# Altium schematic symbol library WA-SMSA.SchLib: 58 symbols
Pins are listed as number, name and electrical type; pins without a type are passive.

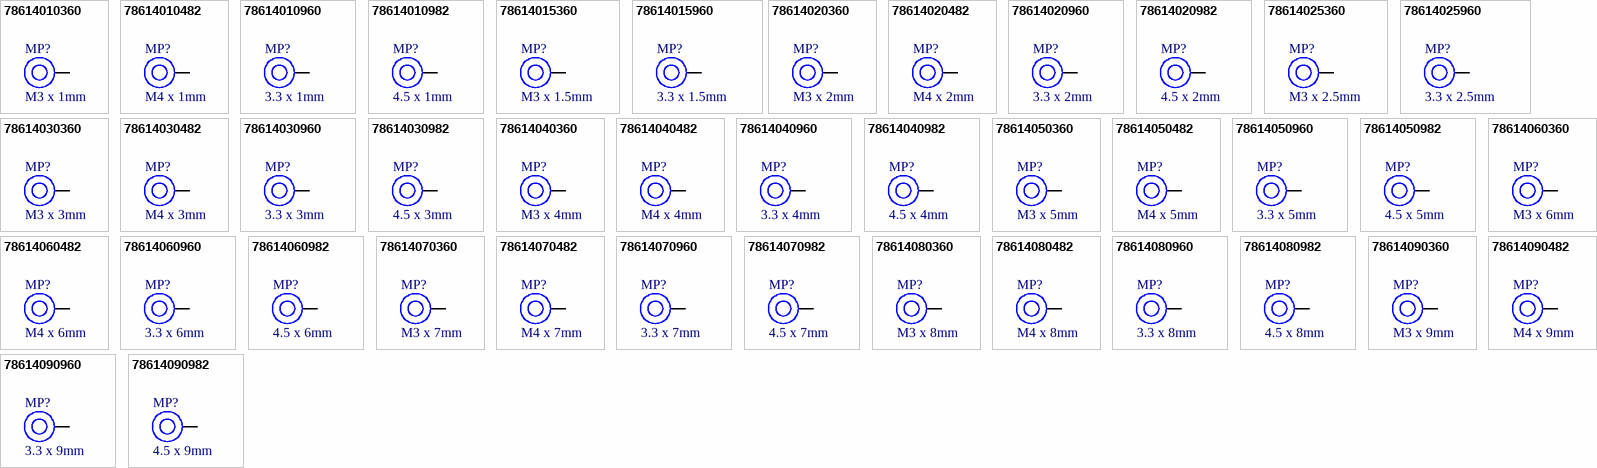
[diagram p0: symbols 78614010360 to 78614090982]

## 78614010360
designator MP?, comment M3 x 1mm
WA-SMSA SMT Spacer Studs Automotive, OD 6mm, ID 4.2mm, M3 x 1mm; Manufacturer Part Number: 78614010360; Manufacturer: Wurth Elektronik; Category: SMT Spacers; Match Code: WA-SMSA; ComponentLink1Description: Website Link; ComponentLink1URL: https://www.we-online.com/redexpert/article/78614010360?ad; ComponentLink2Description: Datasheet Link; ComponentLink2URL: https://www.we-online.com/redexpert/spec/78614010360?ad; Mount: Surface Mount; Operating Temperature Min: -55°C; Operating Temperature Max: 150°C; Packaging: Tape and Reel; Height: 1mm; Automotive: Yes; Inner Diameter: 4.2mm; Outer Diameter: 6mm; Thread Size: M3
footprint 78614010360
pins: 1

## 78614010482
designator MP?, comment M4 x 1mm
WA-SMSA SMT Spacer Studs Automotive, OD 8.2mm, ID 5.2mm, M4 x 1mm; Manufacturer Part Number: 78614010482; Manufacturer: Wurth Elektronik; Category: SMT Spacers; Match Code: WA-SMSA; ComponentLink1Description: Website Link; ComponentLink1URL: https://www.we-online.com/redexpert/article/78614010482?ad; ComponentLink2Description: Datasheet Link; ComponentLink2URL: https://www.we-online.com/redexpert/spec/78614010482?ad; Mount: Surface Mount; Operating Temperature Min: -55°C; Operating Temperature Max: 150°C; Packaging: Tape and Reel; Height: 1mm; Automotive: Yes; Inner Diameter: 5.2mm; Outer Diameter: 8.2mm; Thread Size: M4
footprint 78614010482
pins: 1

## 78614010960
designator MP?, comment 3.3 x 1mm
WA-SMSA SMT Spacer Studs Automotive, OD 6mm, ID 4.2mm, 3.3 x 1mm; Manufacturer Part Number: 78614010960; Manufacturer: Wurth Elektronik; Hole Diameter: 3.3mm; Category: SMT Spacers; Match Code: WA-SMSA; ComponentLink1Description: Website Link; ComponentLink1URL: https://www.we-online.com/redexpert/article/78614010960?ad; ComponentLink2Description: Datasheet Link; ComponentLink2URL: https://www.we-online.com/redexpert/spec/78614010960?ad; Mount: Surface Mount; Operating Temperature Min: -55°C; Operating Temperature Max: 150°C; Packaging: Tape and Reel; Height: 1mm; Automotive: Yes; Inner Diameter: 4.2mm; Outer Diameter: 6mm
footprint 78614010960
pins: 1

## 78614010982
designator MP?, comment 4.5 x 1mm
WA-SMSA SMT Spacer Studs Automotive, OD 8.2mm, ID 5.2mm, 4.5 x 1mm; Manufacturer Part Number: 78614010982; Manufacturer: Wurth Elektronik; Hole Diameter: 4.5mm; Category: SMT Spacers; Match Code: WA-SMSA; ComponentLink1Description: Website Link; ComponentLink1URL: https://www.we-online.com/redexpert/article/78614010982?ad; ComponentLink2Description: Datasheet Link; ComponentLink2URL: https://www.we-online.com/redexpert/spec/78614010982?ad; Mount: Surface Mount; Operating Temperature Min: -55°C; Operating Temperature Max: 150°C; Packaging: Tape and Reel; Height: 1mm; Automotive: Yes; Inner Diameter: 5.2mm; Outer Diameter: 8.2mm
footprint 78614010982
pins: 1

## 78614015360
designator MP?, comment M3 x 1.5mm
WA-SMSA SMT Spacer Studs Automotive, OD 6mm, ID 4.2mm, M3 x 1.5mm; Manufacturer Part Number: 78614015360; Manufacturer: Wurth Elektronik; Category: SMT Spacers; Match Code: WA-SMSA; ComponentLink1Description: Website Link; ComponentLink1URL: https://www.we-online.com/redexpert/article/78614015360?ad; ComponentLink2Description: Datasheet Link; ComponentLink2URL: https://www.we-online.com/redexpert/spec/78614015360?ad; Mount: Surface Mount; Operating Temperature Min: -55°C; Operating Temperature Max: 150°C; Packaging: Tape and Reel; Height: 1.5mm; Automotive: Yes; Inner Diameter: 4.2mm; Outer Diameter: 6mm; Thread Size: M3
footprint 78614015360
pins: 1

## 78614015960
designator MP?, comment 3.3 x 1.5mm
WA-SMSA SMT Spacer Studs Automotive, OD 6mm, ID 4.2mm, 3.3 x 1.5mm; Manufacturer Part Number: 78614015960; Manufacturer: Wurth Elektronik; Hole Diameter: 3.3mm; Category: SMT Spacers; Match Code: WA-SMSA; ComponentLink1Description: Website Link; ComponentLink1URL: https://www.we-online.com/redexpert/article/78614015960?ad; ComponentLink2Description: Datasheet Link; ComponentLink2URL: https://www.we-online.com/redexpert/spec/78614015960?ad; Mount: Surface Mount; Operating Temperature Min: -55°C; Operating Temperature Max: 150°C; Packaging: Tape and Reel; Height: 1.5mm; Automotive: Yes; Inner Diameter: 4.2mm; Outer Diameter: 6mm
footprint 78614015960
pins: 1

## 78614020360
designator MP?, comment M3 x 2mm
WA-SMSA SMT Spacer Studs Automotive, OD 6mm, ID 4.2mm, M3 x 2mm; Manufacturer Part Number: 78614020360; Manufacturer: Wurth Elektronik; Category: SMT Spacers; Match Code: WA-SMSA; ComponentLink1Description: Website Link; ComponentLink1URL: https://www.we-online.com/redexpert/article/78614020360?ad; ComponentLink2Description: Datasheet Link; ComponentLink2URL: https://www.we-online.com/redexpert/spec/78614020360?ad; Mount: Surface Mount; Operating Temperature Min: -55°C; Operating Temperature Max: 150°C; Packaging: Tape and Reel; Height: 2mm; Automotive: Yes; Inner Diameter: 4.2mm; Outer Diameter: 6mm; Thread Size: M3
footprint 78614020360
pins: 1

## 78614020482
designator MP?, comment M4 x 2mm
WA-SMSA SMT Spacer Studs Automotive, OD 8.2mm, ID 5.2mm, M4 x 2mm; Manufacturer Part Number: 78614020482; Manufacturer: Wurth Elektronik; Category: SMT Spacers; Match Code: WA-SMSA; ComponentLink1Description: Website Link; ComponentLink1URL: https://www.we-online.com/redexpert/article/78614020482?ad; ComponentLink2Description: Datasheet Link; ComponentLink2URL: https://www.we-online.com/redexpert/spec/78614020482?ad; Mount: Surface Mount; Operating Temperature Min: -55°C; Operating Temperature Max: 150°C; Packaging: Tape and Reel; Height: 2mm; Automotive: Yes; Inner Diameter: 5.2mm; Outer Diameter: 8.2mm; Thread Size: M4
footprint 78614020482
pins: 1

## 78614020960
designator MP?, comment 3.3 x 2mm
WA-SMSA SMT Spacer Studs Automotive, OD 6mm, ID 4.2mm, 3.3 x 2mm; Manufacturer Part Number: 78614020960; Manufacturer: Wurth Elektronik; Hole Diameter: 3.3mm; Category: SMT Spacers; Match Code: WA-SMSA; ComponentLink1Description: Website Link; ComponentLink1URL: https://www.we-online.com/redexpert/article/78614020960?ad; ComponentLink2Description: Datasheet Link; ComponentLink2URL: https://www.we-online.com/redexpert/spec/78614020960?ad; Mount: Surface Mount; Operating Temperature Min: -55°C; Operating Temperature Max: 150°C; Packaging: Tape and Reel; Height: 2mm; Automotive: Yes; Inner Diameter: 4.2mm; Outer Diameter: 6mm
footprint 78614020960
pins: 1

## 78614020982
designator MP?, comment 4.5 x 2mm
WA-SMSA SMT Spacer Studs Automotive, OD 8.2mm, ID 5.2mm, 4.5 x 2mm; Manufacturer Part Number: 78614020982; Manufacturer: Wurth Elektronik; Hole Diameter: 4.5mm; Category: SMT Spacers; Match Code: WA-SMSA; ComponentLink1Description: Website Link; ComponentLink1URL: https://www.we-online.com/redexpert/article/78614020982?ad; ComponentLink2Description: Datasheet Link; ComponentLink2URL: https://www.we-online.com/redexpert/spec/78614020982?ad; Mount: Surface Mount; Operating Temperature Min: -55°C; Operating Temperature Max: 150°C; Packaging: Tape and Reel; Height: 2mm; Automotive: Yes; Inner Diameter: 5.2mm; Outer Diameter: 8.2mm
footprint 78614020982
pins: 1

## 78614025360
designator MP?, comment M3 x 2.5mm
WA-SMSA SMT Spacer Studs Automotive, OD 6mm, ID 4.2mm, M3 x 2.5mm; Manufacturer Part Number: 78614025360; Manufacturer: Wurth Elektronik; Category: SMT Spacers; Match Code: WA-SMSA; ComponentLink1Description: Website Link; ComponentLink1URL: https://www.we-online.com/redexpert/article/78614025360?ad; ComponentLink2Description: Datasheet Link; ComponentLink2URL: https://www.we-online.com/redexpert/spec/78614025360?ad; Mount: Surface Mount; Operating Temperature Min: -55°C; Operating Temperature Max: 150°C; Packaging: Tape and Reel; Height: 2.5mm; Automotive: Yes; Inner Diameter: 4.2mm; Outer Diameter: 6mm; Thread Size: M3
footprint 78614025360
pins: 1

## 78614025960
designator MP?, comment 3.3 x 2.5mm
WA-SMSA SMT Spacer Studs Automotive, OD 6mm, ID 4.2mm, 3.3 x 2.5mm; Manufacturer Part Number: 78614025960; Manufacturer: Wurth Elektronik; Hole Diameter: 3.3mm; Category: SMT Spacers; Match Code: WA-SMSA; ComponentLink1Description: Website Link; ComponentLink1URL: https://www.we-online.com/redexpert/article/78614025960?ad; ComponentLink2Description: Datasheet Link; ComponentLink2URL: https://www.we-online.com/redexpert/spec/78614025960?ad; Mount: Surface Mount; Operating Temperature Min: -55°C; Operating Temperature Max: 150°C; Packaging: Tape and Reel; Height: 2.5mm; Automotive: Yes; Inner Diameter: 4.2mm; Outer Diameter: 6mm
footprint 78614025960
pins: 1

## 78614030360
designator MP?, comment M3 x 3mm
WA-SMSA SMT Spacer Studs Automotive, OD 6mm, ID 4.2mm, M3 x 3mm; Manufacturer Part Number: 78614030360; Manufacturer: Wurth Elektronik; Category: SMT Spacers; Match Code: WA-SMSA; ComponentLink1Description: Website Link; ComponentLink1URL: https://www.we-online.com/redexpert/article/78614030360?ad; ComponentLink2Description: Datasheet Link; ComponentLink2URL: https://www.we-online.com/redexpert/spec/78614030360?ad; Mount: Surface Mount; Operating Temperature Min: -55°C; Operating Temperature Max: 150°C; Packaging: Tape and Reel; Height: 3mm; Automotive: Yes; Inner Diameter: 4.2mm; Outer Diameter: 6mm; Thread Size: M3
footprint 78614030360
pins: 1

## 78614030482
designator MP?, comment M4 x 3mm
WA-SMSA SMT Spacer Studs Automotive, OD 8.2mm, ID 5.2mm, M4 x 3mm; Manufacturer Part Number: 78614030482; Manufacturer: Wurth Elektronik; Category: SMT Spacers; Match Code: WA-SMSA; ComponentLink1Description: Website Link; ComponentLink1URL: https://www.we-online.com/redexpert/article/78614030482?ad; ComponentLink2Description: Datasheet Link; ComponentLink2URL: https://www.we-online.com/redexpert/spec/78614030482?ad; Mount: Surface Mount; Operating Temperature Min: -55°C; Operating Temperature Max: 150°C; Packaging: Tape and Reel; Height: 3mm; Automotive: Yes; Inner Diameter: 5.2mm; Outer Diameter: 8.2mm; Thread Size: M4
footprint 78614030482
pins: 1

## 78614030960
designator MP?, comment 3.3 x 3mm
WA-SMSA SMT Spacer Studs Automotive, OD 6mm, ID 4.2mm, 3.3 x 3mm; Manufacturer Part Number: 78614030960; Manufacturer: Wurth Elektronik; Hole Diameter: 3.3mm; Category: SMT Spacers; Match Code: WA-SMSA; ComponentLink1Description: Website Link; ComponentLink1URL: https://www.we-online.com/redexpert/article/78614030960?ad; ComponentLink2Description: Datasheet Link; ComponentLink2URL: https://www.we-online.com/redexpert/spec/78614030960?ad; Mount: Surface Mount; Operating Temperature Min: -55°C; Operating Temperature Max: 150°C; Packaging: Tape and Reel; Height: 3mm; Automotive: Yes; Inner Diameter: 4.2mm; Outer Diameter: 6mm
footprint 78614030960
pins: 1

## 78614030982
designator MP?, comment 4.5 x 3mm
WA-SMSA SMT Spacer Studs Automotive, OD 8.2mm, ID 5.2mm, 4.5 x 3mm; Manufacturer Part Number: 78614030982; Manufacturer: Wurth Elektronik; Hole Diameter: 4.5mm; Category: SMT Spacers; Match Code: WA-SMSA; ComponentLink1Description: Website Link; ComponentLink1URL: https://www.we-online.com/redexpert/article/78614030982?ad; ComponentLink2Description: Datasheet Link; ComponentLink2URL: https://www.we-online.com/redexpert/spec/78614030982?ad; Mount: Surface Mount; Operating Temperature Min: -55°C; Operating Temperature Max: 150°C; Packaging: Tape and Reel; Height: 3mm; Automotive: Yes; Inner Diameter: 5.2mm; Outer Diameter: 8.2mm
footprint 78614030982
pins: 1

## 78614040360
designator MP?, comment M3 x 4mm
WA-SMSA SMT Spacer Studs Automotive, OD 6mm, ID 4.2mm, M3 x 4mm; Manufacturer Part Number: 78614040360; Manufacturer: Wurth Elektronik; Category: SMT Spacers; Match Code: WA-SMSA; ComponentLink1Description: Website Link; ComponentLink1URL: https://www.we-online.com/redexpert/article/78614040360?ad; ComponentLink2Description: Datasheet Link; ComponentLink2URL: https://www.we-online.com/redexpert/spec/78614040360?ad; Mount: Surface Mount; Operating Temperature Min: -55°C; Operating Temperature Max: 150°C; Packaging: Tape and Reel; Height: 4mm; Automotive: Yes; Inner Diameter: 4.2mm; Outer Diameter: 6mm; Thread Size: M3
footprint 78614040360
pins: 1

## 78614040482
designator MP?, comment M4 x 4mm
WA-SMSA SMT Spacer Studs Automotive, OD 8.2mm, ID 5.2mm, M4 x 4mm; Manufacturer Part Number: 78614040482; Manufacturer: Wurth Elektronik; Category: SMT Spacers; Match Code: WA-SMSA; ComponentLink1Description: Website Link; ComponentLink1URL: https://www.we-online.com/redexpert/article/78614040482?ad; ComponentLink2Description: Datasheet Link; ComponentLink2URL: https://www.we-online.com/redexpert/spec/78614040482?ad; Mount: Surface Mount; Operating Temperature Min: -55°C; Operating Temperature Max: 150°C; Packaging: Tape and Reel; Height: 4mm; Automotive: Yes; Inner Diameter: 5.2mm; Outer Diameter: 8.2mm; Thread Size: M4
footprint 78614040482
pins: 1

## 78614040960
designator MP?, comment 3.3 x 4mm
WA-SMSA SMT Spacer Studs Automotive, OD 6mm, ID 4.2mm, 3.3 x 4mm; Manufacturer Part Number: 78614040960; Manufacturer: Wurth Elektronik; Hole Diameter: 3.3mm; Category: SMT Spacers; Match Code: WA-SMSA; ComponentLink1Description: Website Link; ComponentLink1URL: https://www.we-online.com/redexpert/article/78614040960?ad; ComponentLink2Description: Datasheet Link; ComponentLink2URL: https://www.we-online.com/redexpert/spec/78614040960?ad; Mount: Surface Mount; Operating Temperature Min: -55°C; Operating Temperature Max: 150°C; Packaging: Tape and Reel; Height: 4mm; Automotive: Yes; Inner Diameter: 4.2mm; Outer Diameter: 6mm
footprint 78614040960
pins: 1

## 78614040982
designator MP?, comment 4.5 x 4mm
WA-SMSA SMT Spacer Studs Automotive, OD 8.2mm, ID 5.2mm, 4.5 x 4mm; Manufacturer Part Number: 78614040982; Manufacturer: Wurth Elektronik; Hole Diameter: 4.5mm; Category: SMT Spacers; Match Code: WA-SMSA; ComponentLink1Description: Website Link; ComponentLink1URL: https://www.we-online.com/redexpert/article/78614040982?ad; ComponentLink2Description: Datasheet Link; ComponentLink2URL: https://www.we-online.com/redexpert/spec/78614040982?ad; Mount: Surface Mount; Operating Temperature Min: -55°C; Operating Temperature Max: 150°C; Packaging: Tape and Reel; Height: 4mm; Automotive: Yes; Inner Diameter: 5.2mm; Outer Diameter: 8.2mm
footprint 78614040982
pins: 1

## 78614050360
designator MP?, comment M3 x 5mm
WA-SMSA SMT Spacer Studs Automotive, OD 6mm, ID 4.2mm, M3 x 5mm; Manufacturer Part Number: 78614050360; Manufacturer: Wurth Elektronik; Category: SMT Spacers; Match Code: WA-SMSA; ComponentLink1Description: Website Link; ComponentLink1URL: https://www.we-online.com/redexpert/article/78614050360?ad; ComponentLink2Description: Datasheet Link; ComponentLink2URL: https://www.we-online.com/redexpert/spec/78614050360?ad; Mount: Surface Mount; Operating Temperature Min: -55°C; Operating Temperature Max: 150°C; Packaging: Tape and Reel; Height: 5mm; Automotive: Yes; Inner Diameter: 4.2mm; Outer Diameter: 6mm; Thread Size: M3
footprint 78614050360
pins: 1

## 78614050482
designator MP?, comment M4 x 5mm
WA-SMSA SMT Spacer Studs Automotive, OD 8.2mm, ID 5.2mm, M4 x 5mm; Manufacturer Part Number: 78614050482; Manufacturer: Wurth Elektronik; Category: SMT Spacers; Match Code: WA-SMSA; ComponentLink1Description: Website Link; ComponentLink1URL: https://www.we-online.com/redexpert/article/78614050482?ad; ComponentLink2Description: Datasheet Link; ComponentLink2URL: https://www.we-online.com/redexpert/spec/78614050482?ad; Mount: Surface Mount; Operating Temperature Min: -55°C; Operating Temperature Max: 150°C; Packaging: Tape and Reel; Height: 5mm; Automotive: Yes; Inner Diameter: 5.2mm; Outer Diameter: 8.2mm; Thread Size: M4
footprint 78614050482
pins: 1

## 78614050960
designator MP?, comment 3.3 x 5mm
WA-SMSA SMT Spacer Studs Automotive, OD 6mm, ID 4.2mm, 3.3 x 5mm; Manufacturer Part Number: 78614050960; Manufacturer: Wurth Elektronik; Hole Diameter: 3.3mm; Category: SMT Spacers; Match Code: WA-SMSA; ComponentLink1Description: Website Link; ComponentLink1URL: https://www.we-online.com/redexpert/article/78614050960?ad; ComponentLink2Description: Datasheet Link; ComponentLink2URL: https://www.we-online.com/redexpert/spec/78614050960?ad; Mount: Surface Mount; Operating Temperature Min: -55°C; Operating Temperature Max: 150°C; Packaging: Tape and Reel; Height: 5mm; Automotive: Yes; Inner Diameter: 4.2mm; Outer Diameter: 6mm
footprint 78614050960
pins: 1

## 78614050982
designator MP?, comment 4.5 x 5mm
WA-SMSA SMT Spacer Studs Automotive, OD 8.2mm, ID 5.2mm, 4.5 x 5mm; Manufacturer Part Number: 78614050982; Manufacturer: Wurth Elektronik; Hole Diameter: 4.5mm; Category: SMT Spacers; Match Code: WA-SMSA; ComponentLink1Description: Website Link; ComponentLink1URL: https://www.we-online.com/redexpert/article/78614050982?ad; ComponentLink2Description: Datasheet Link; ComponentLink2URL: https://www.we-online.com/redexpert/spec/78614050982?ad; Mount: Surface Mount; Operating Temperature Min: -55°C; Operating Temperature Max: 150°C; Packaging: Tape and Reel; Height: 5mm; Automotive: Yes; Inner Diameter: 5.2mm; Outer Diameter: 8.2mm
footprint 78614050982
pins: 1

## 78614060360
designator MP?, comment M3 x 6mm
WA-SMSA SMT Spacer Studs Automotive, OD 6mm, ID 4.2mm, M3 x 6mm; Manufacturer Part Number: 78614060360; Manufacturer: Wurth Elektronik; Category: SMT Spacers; Match Code: WA-SMSA; ComponentLink1Description: Website Link; ComponentLink1URL: https://www.we-online.com/redexpert/article/78614060360?ad; ComponentLink2Description: Datasheet Link; ComponentLink2URL: https://www.we-online.com/redexpert/spec/78614060360?ad; Mount: Surface Mount; Operating Temperature Min: -55°C; Operating Temperature Max: 150°C; Packaging: Tape and Reel; Height: 6mm; Automotive: Yes; Inner Diameter: 4.2mm; Outer Diameter: 6mm; Thread Size: M3
footprint 78614060360
pins: 1

## 78614060482
designator MP?, comment M4 x 6mm
WA-SMSA SMT Spacer Studs Automotive, OD 8.2mm, ID 5.2mm, M4 x 6mm; Manufacturer Part Number: 78614060482; Manufacturer: Wurth Elektronik; Category: SMT Spacers; Match Code: WA-SMSA; ComponentLink1Description: Website Link; ComponentLink1URL: https://www.we-online.com/redexpert/article/78614060482?ad; ComponentLink2Description: Datasheet Link; ComponentLink2URL: https://www.we-online.com/redexpert/spec/78614060482?ad; Mount: Surface Mount; Operating Temperature Min: -55°C; Operating Temperature Max: 150°C; Packaging: Tape and Reel; Height: 6mm; Automotive: Yes; Inner Diameter: 5.2mm; Outer Diameter: 8.2mm; Thread Size: M4
footprint 78614060482
pins: 1

## 78614060960
designator MP?, comment 3.3 x 6mm
WA-SMSA SMT Spacer Studs Automotive, OD 6mm, ID 4.2mm, 3.3 x 6mm; Manufacturer Part Number: 78614060960; Manufacturer: Wurth Elektronik; Hole Diameter: 3.3mm; Category: SMT Spacers; Match Code: WA-SMSA; ComponentLink1Description: Website Link; ComponentLink1URL: https://www.we-online.com/redexpert/article/78614060960?ad; ComponentLink2Description: Datasheet Link; ComponentLink2URL: https://www.we-online.com/redexpert/spec/78614060960?ad; Mount: Surface Mount; Operating Temperature Min: -55°C; Operating Temperature Max: 150°C; Packaging: Tape and Reel; Height: 6mm; Automotive: Yes; Inner Diameter: 4.2mm; Outer Diameter: 6mm
footprint 78614060960
pins: 1

## 78614060982
designator MP?, comment 4.5 x 6mm
WA-SMSA SMT Spacer Studs Automotive, OD 8.2mm, ID 5.2mm, 4.5 x 6mm; Manufacturer Part Number: 78614060982; Manufacturer: Wurth Elektronik; Hole Diameter: 4.5mm; Category: SMT Spacers; Match Code: WA-SMSA; ComponentLink1Description: Website Link; ComponentLink1URL: https://www.we-online.com/redexpert/article/78614060982?ad; ComponentLink2Description: Datasheet Link; ComponentLink2URL: https://www.we-online.com/redexpert/spec/78614060982?ad; Mount: Surface Mount; Operating Temperature Min: -55°C; Operating Temperature Max: 150°C; Packaging: Tape and Reel; Height: 6mm; Automotive: Yes; Inner Diameter: 5.2mm; Outer Diameter: 8.2mm
footprint 78614060982
pins: 1

## 78614070360
designator MP?, comment M3 x 7mm
WA-SMSA SMT Spacer Studs Automotive, OD 6mm, ID 4.2mm, M3 x 7mm; Manufacturer Part Number: 78614070360; Manufacturer: Wurth Elektronik; Category: SMT Spacers; Match Code: WA-SMSA; ComponentLink1Description: Website Link; ComponentLink1URL: https://www.we-online.com/redexpert/article/78614070360?ad; ComponentLink2Description: Datasheet Link; ComponentLink2URL: https://www.we-online.com/redexpert/spec/78614070360?ad; Mount: Surface Mount; Operating Temperature Min: -55°C; Operating Temperature Max: 150°C; Packaging: Tape and Reel; Height: 7mm; Automotive: Yes; Inner Diameter: 4.2mm; Outer Diameter: 6mm; Thread Size: M3
footprint 78614070360
pins: 1

## 78614070482
designator MP?, comment M4 x 7mm
WA-SMSA SMT Spacer Studs Automotive, OD 8.2mm, ID 5.2mm, M4 x 7mm; Manufacturer Part Number: 78614070482; Manufacturer: Wurth Elektronik; Category: SMT Spacers; Match Code: WA-SMSA; ComponentLink1Description: Website Link; ComponentLink1URL: https://www.we-online.com/redexpert/article/78614070482?ad; ComponentLink2Description: Datasheet Link; ComponentLink2URL: https://www.we-online.com/redexpert/spec/78614070482?ad; Mount: Surface Mount; Operating Temperature Min: -55°C; Operating Temperature Max: 150°C; Packaging: Tape and Reel; Height: 7mm; Automotive: Yes; Inner Diameter: 5.2mm; Outer Diameter: 8.2mm; Thread Size: M4
footprint 78614070482
pins: 1

## 78614070960
designator MP?, comment 3.3 x 7mm
WA-SMSA SMT Spacer Studs Automotive, OD 6mm, ID 4.2mm, 3.3 x 7mm; Manufacturer Part Number: 78614070960; Manufacturer: Wurth Elektronik; Hole Diameter: 3.3mm; Category: SMT Spacers; Match Code: WA-SMSA; ComponentLink1Description: Website Link; ComponentLink1URL: https://www.we-online.com/redexpert/article/78614070960?ad; ComponentLink2Description: Datasheet Link; ComponentLink2URL: https://www.we-online.com/redexpert/spec/78614070960?ad; Mount: Surface Mount; Operating Temperature Min: -55°C; Operating Temperature Max: 150°C; Packaging: Tape and Reel; Height: 7mm; Automotive: Yes; Inner Diameter: 4.2mm; Outer Diameter: 6mm
footprint 78614070960
pins: 1

## 78614070982
designator MP?, comment 4.5 x 7mm
WA-SMSA SMT Spacer Studs Automotive, OD 8.2mm, ID 5.2mm, 4.5 x 7mm; Manufacturer Part Number: 78614070982; Manufacturer: Wurth Elektronik; Hole Diameter: 4.5mm; Category: SMT Spacers; Match Code: WA-SMSA; ComponentLink1Description: Website Link; ComponentLink1URL: https://www.we-online.com/redexpert/article/78614070982?ad; ComponentLink2Description: Datasheet Link; ComponentLink2URL: https://www.we-online.com/redexpert/spec/78614070982?ad; Mount: Surface Mount; Operating Temperature Min: -55°C; Operating Temperature Max: 150°C; Packaging: Tape and Reel; Height: 7mm; Automotive: Yes; Inner Diameter: 5.2mm; Outer Diameter: 8.2mm
footprint 78614070982
pins: 1

## 78614080360
designator MP?, comment M3 x 8mm
WA-SMSA SMT Spacer Studs Automotive, OD 6mm, ID 4.2mm, M3 x 8mm; Manufacturer Part Number: 78614080360; Manufacturer: Wurth Elektronik; Category: SMT Spacers; Match Code: WA-SMSA; ComponentLink1Description: Website Link; ComponentLink1URL: https://www.we-online.com/redexpert/article/78614080360?ad; ComponentLink2Description: Datasheet Link; ComponentLink2URL: https://www.we-online.com/redexpert/spec/78614080360?ad; Mount: Surface Mount; Operating Temperature Min: -55°C; Operating Temperature Max: 150°C; Packaging: Tape and Reel; Height: 8mm; Automotive: Yes; Inner Diameter: 4.2mm; Outer Diameter: 6mm; Thread Size: M3
footprint 78614080360
pins: 1

## 78614080482
designator MP?, comment M4 x 8mm
WA-SMSA SMT Spacer Studs Automotive, OD 8.2mm, ID 5.2mm, M4 x 8mm; Manufacturer Part Number: 78614080482; Manufacturer: Wurth Elektronik; Category: SMT Spacers; Match Code: WA-SMSA; ComponentLink1Description: Website Link; ComponentLink1URL: https://www.we-online.com/redexpert/article/78614080482?ad; ComponentLink2Description: Datasheet Link; ComponentLink2URL: https://www.we-online.com/redexpert/spec/78614080482?ad; Mount: Surface Mount; Operating Temperature Min: -55°C; Operating Temperature Max: 150°C; Packaging: Tape and Reel; Height: 8mm; Automotive: Yes; Inner Diameter: 5.2mm; Outer Diameter: 8.2mm; Thread Size: M4
footprint 78614080482
pins: 1

## 78614080960
designator MP?, comment 3.3 x 8mm
WA-SMSA SMT Spacer Studs Automotive, OD 6mm, ID 4.2mm, 3.3 x 8mm; Manufacturer Part Number: 78614080960; Manufacturer: Wurth Elektronik; Hole Diameter: 3.3mm; Category: SMT Spacers; Match Code: WA-SMSA; ComponentLink1Description: Website Link; ComponentLink1URL: https://www.we-online.com/redexpert/article/78614080960?ad; ComponentLink2Description: Datasheet Link; ComponentLink2URL: https://www.we-online.com/redexpert/spec/78614080960?ad; Mount: Surface Mount; Operating Temperature Min: -55°C; Operating Temperature Max: 150°C; Packaging: Tape and Reel; Height: 8mm; Automotive: Yes; Inner Diameter: 4.2mm; Outer Diameter: 6mm
footprint 78614080960
pins: 1

## 78614080982
designator MP?, comment 4.5 x 8mm
WA-SMSA SMT Spacer Studs Automotive, OD 8.2mm, ID 5.2mm, 4.5 x 8mm; Manufacturer Part Number: 78614080982; Manufacturer: Wurth Elektronik; Hole Diameter: 4.5mm; Category: SMT Spacers; Match Code: WA-SMSA; ComponentLink1Description: Website Link; ComponentLink1URL: https://www.we-online.com/redexpert/article/78614080982?ad; ComponentLink2Description: Datasheet Link; ComponentLink2URL: https://www.we-online.com/redexpert/spec/78614080982?ad; Mount: Surface Mount; Operating Temperature Min: -55°C; Operating Temperature Max: 150°C; Packaging: Tape and Reel; Height: 8mm; Automotive: Yes; Inner Diameter: 5.2mm; Outer Diameter: 8.2mm
footprint 78614080982
pins: 1

## 78614090360
designator MP?, comment M3 x 9mm
WA-SMSA SMT Spacer Studs Automotive, OD 6mm, ID 4.2mm, M3 x 9mm; Manufacturer Part Number: 78614090360; Manufacturer: Wurth Elektronik; Category: SMT Spacers; Match Code: WA-SMSA; ComponentLink1Description: Website Link; ComponentLink1URL: https://www.we-online.com/redexpert/article/78614090360?ad; ComponentLink2Description: Datasheet Link; ComponentLink2URL: https://www.we-online.com/redexpert/spec/78614090360?ad; Mount: Surface Mount; Operating Temperature Min: -55°C; Operating Temperature Max: 150°C; Packaging: Tape and Reel; Height: 9mm; Automotive: Yes; Inner Diameter: 4.2mm; Outer Diameter: 6mm; Thread Size: M3
footprint 78614090360
pins: 1

## 78614090482
designator MP?, comment M4 x 9mm
WA-SMSA SMT Spacer Studs Automotive, OD 8.2mm, ID 5.2mm, M4 x 9mm; Manufacturer Part Number: 78614090482; Manufacturer: Wurth Elektronik; Category: SMT Spacers; Match Code: WA-SMSA; ComponentLink1Description: Website Link; ComponentLink1URL: https://www.we-online.com/redexpert/article/78614090482?ad; ComponentLink2Description: Datasheet Link; ComponentLink2URL: https://www.we-online.com/redexpert/spec/78614090482?ad; Mount: Surface Mount; Operating Temperature Min: -55°C; Operating Temperature Max: 150°C; Packaging: Tape and Reel; Height: 9mm; Automotive: Yes; Inner Diameter: 5.2mm; Outer Diameter: 8.2mm; Thread Size: M4
footprint 78614090482
pins: 1

## 78614090960
designator MP?, comment 3.3 x 9mm
WA-SMSA SMT Spacer Studs Automotive, OD 6mm, ID 4.2mm, 3.3 x 9mm; Manufacturer Part Number: 78614090960; Manufacturer: Wurth Elektronik; Hole Diameter: 3.3mm; Category: SMT Spacers; Match Code: WA-SMSA; ComponentLink1Description: Website Link; ComponentLink1URL: https://www.we-online.com/redexpert/article/78614090960?ad; ComponentLink2Description: Datasheet Link; ComponentLink2URL: https://www.we-online.com/redexpert/spec/78614090960?ad; Mount: Surface Mount; Operating Temperature Min: -55°C; Operating Temperature Max: 150°C; Packaging: Tape and Reel; Height: 9mm; Automotive: Yes; Inner Diameter: 4.2mm; Outer Diameter: 6mm
footprint 78614090960
pins: 1

## 78614090982
designator MP?, comment 4.5 x 9mm
WA-SMSA SMT Spacer Studs Automotive, OD 8.2mm, ID 5.2mm, 4.5 x 9mm; Manufacturer Part Number: 78614090982; Manufacturer: Wurth Elektronik; Hole Diameter: 4.5mm; Category: SMT Spacers; Match Code: WA-SMSA; ComponentLink1Description: Website Link; ComponentLink1URL: https://www.we-online.com/redexpert/article/78614090982?ad; ComponentLink2Description: Datasheet Link; ComponentLink2URL: https://www.we-online.com/redexpert/spec/78614090982?ad; Mount: Surface Mount; Operating Temperature Min: -55°C; Operating Temperature Max: 150°C; Packaging: Tape and Reel; Height: 9mm; Automotive: Yes; Inner Diameter: 5.2mm; Outer Diameter: 8.2mm
footprint 78614090982
pins: 1

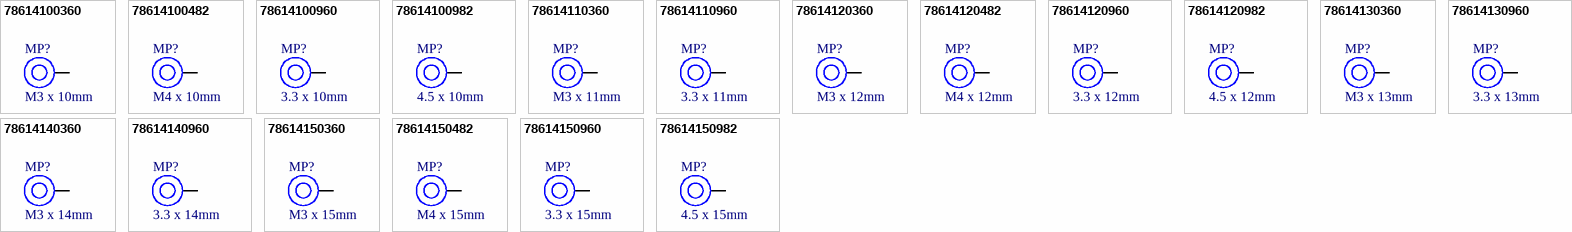
[diagram p1: symbols 78614100360 to 78614150982]

## 78614100360
designator MP?, comment M3 x 10mm
WA-SMSA SMT Spacer Studs Automotive, OD 6mm, ID 4.2mm, M3 x 10mm; Manufacturer Part Number: 78614100360; Manufacturer: Wurth Elektronik; Category: SMT Spacers; Match Code: WA-SMSA; ComponentLink1Description: Website Link; ComponentLink1URL: https://www.we-online.com/redexpert/article/78614100360?ad; ComponentLink2Description: Datasheet Link; ComponentLink2URL: https://www.we-online.com/redexpert/spec/78614100360?ad; Mount: Surface Mount; Operating Temperature Min: -55°C; Operating Temperature Max: 150°C; Packaging: Tape and Reel; Height: 10mm; Automotive: Yes; Inner Diameter: 4.2mm; Outer Diameter: 6mm; Thread Size: M3
footprint 78614100360
pins: 1

## 78614100482
designator MP?, comment M4 x 10mm
WA-SMSA SMT Spacer Studs Automotive, OD 8.2mm, ID 5.2mm, M4 x 10mm; Manufacturer Part Number: 78614100482; Manufacturer: Wurth Elektronik; Category: SMT Spacers; Match Code: WA-SMSA; ComponentLink1Description: Website Link; ComponentLink1URL: https://www.we-online.com/redexpert/article/78614100482?ad; ComponentLink2Description: Datasheet Link; ComponentLink2URL: https://www.we-online.com/redexpert/spec/78614100482?ad; Mount: Surface Mount; Operating Temperature Min: -55°C; Operating Temperature Max: 150°C; Packaging: Tape and Reel; Height: 10mm; Automotive: Yes; Inner Diameter: 5.2mm; Outer Diameter: 8.2mm; Thread Size: M4
footprint 78614100482
pins: 1

## 78614100960
designator MP?, comment 3.3 x 10mm
WA-SMSA SMT Spacer Studs Automotive, OD 6mm, ID 4.2mm, 3.3 x 10mm; Manufacturer Part Number: 78614100960; Manufacturer: Wurth Elektronik; Hole Diameter: 3.3mm; Category: SMT Spacers; Match Code: WA-SMSA; ComponentLink1Description: Website Link; ComponentLink1URL: https://www.we-online.com/redexpert/article/78614100960?ad; ComponentLink2Description: Datasheet Link; ComponentLink2URL: https://www.we-online.com/redexpert/spec/78614100960?ad; Mount: Surface Mount; Operating Temperature Min: -55°C; Operating Temperature Max: 150°C; Packaging: Tape and Reel; Height: 10mm; Automotive: Yes; Inner Diameter: 4.2mm; Outer Diameter: 6mm
footprint 78614100960
pins: 1

## 78614100982
designator MP?, comment 4.5 x 10mm
WA-SMSA SMT Spacer Studs Automotive, OD 8.2mm, ID 5.2mm, 4.5 x 10mm; Manufacturer Part Number: 78614100982; Manufacturer: Wurth Elektronik; Hole Diameter: 4.5mm; Category: SMT Spacers; Match Code: WA-SMSA; ComponentLink1Description: Website Link; ComponentLink1URL: https://www.we-online.com/redexpert/article/78614100982?ad; ComponentLink2Description: Datasheet Link; ComponentLink2URL: https://www.we-online.com/redexpert/spec/78614100982?ad; Mount: Surface Mount; Operating Temperature Min: -55°C; Operating Temperature Max: 150°C; Packaging: Tape and Reel; Height: 10mm; Automotive: Yes; Inner Diameter: 5.2mm; Outer Diameter: 8.2mm
footprint 78614100982
pins: 1

## 78614110360
designator MP?, comment M3 x 11mm
WA-SMSA SMT Spacer Studs Automotive, OD 6mm, ID 4.2mm, M3 x 11mm; Manufacturer Part Number: 78614110360; Manufacturer: Wurth Elektronik; Category: SMT Spacers; Match Code: WA-SMSA; ComponentLink1Description: Website Link; ComponentLink1URL: https://www.we-online.com/redexpert/article/78614110360?ad; ComponentLink2Description: Datasheet Link; ComponentLink2URL: https://www.we-online.com/redexpert/spec/78614110360?ad; Mount: Surface Mount; Operating Temperature Min: -55°C; Operating Temperature Max: 150°C; Packaging: Tape and Reel; Height: 11mm; Automotive: Yes; Inner Diameter: 4.2mm; Outer Diameter: 6mm; Thread Size: M3
footprint 78614110360
pins: 1

## 78614110960
designator MP?, comment 3.3 x 11mm
WA-SMSA SMT Spacer Studs Automotive, OD 6mm, ID 4.2mm, 3.3 x 11mm; Manufacturer Part Number: 78614110960; Manufacturer: Wurth Elektronik; Hole Diameter: 3.3mm; Category: SMT Spacers; Match Code: WA-SMSA; ComponentLink1Description: Website Link; ComponentLink1URL: https://www.we-online.com/redexpert/article/78614110960?ad; ComponentLink2Description: Datasheet Link; ComponentLink2URL: https://www.we-online.com/redexpert/spec/78614110960?ad; Mount: Surface Mount; Operating Temperature Min: -55°C; Operating Temperature Max: 150°C; Packaging: Tape and Reel; Height: 11mm; Automotive: Yes; Inner Diameter: 4.2mm; Outer Diameter: 6mm
footprint 78614110960
pins: 1

## 78614120360
designator MP?, comment M3 x 12mm
WA-SMSA SMT Spacer Studs Automotive, OD 6mm, ID 4.2mm, M3 x 12mm; Manufacturer Part Number: 78614120360; Manufacturer: Wurth Elektronik; Category: SMT Spacers; Match Code: WA-SMSA; ComponentLink1Description: Website Link; ComponentLink1URL: https://www.we-online.com/redexpert/article/78614120360?ad; ComponentLink2Description: Datasheet Link; ComponentLink2URL: https://www.we-online.com/redexpert/spec/78614120360?ad; Mount: Surface Mount; Operating Temperature Min: -55°C; Operating Temperature Max: 150°C; Packaging: Tape and Reel; Height: 12mm; Automotive: Yes; Inner Diameter: 4.2mm; Outer Diameter: 6mm; Thread Size: M3
footprint 78614120360
pins: 1

## 78614120482
designator MP?, comment M4 x 12mm
WA-SMSA SMT Spacer Studs Automotive, OD 8.2mm, ID 5.2mm, M4 x 12mm; Manufacturer Part Number: 78614120482; Manufacturer: Wurth Elektronik; Category: SMT Spacers; Match Code: WA-SMSA; ComponentLink1Description: Website Link; ComponentLink1URL: https://www.we-online.com/redexpert/article/78614120482?ad; ComponentLink2Description: Datasheet Link; ComponentLink2URL: https://www.we-online.com/redexpert/spec/78614120482?ad; Mount: Surface Mount; Operating Temperature Min: -55°C; Operating Temperature Max: 150°C; Packaging: Tape and Reel; Height: 12mm; Automotive: Yes; Inner Diameter: 5.2mm; Outer Diameter: 8.2mm; Thread Size: M4
footprint 78614120482
pins: 1

## 78614120960
designator MP?, comment 3.3 x 12mm
WA-SMSA SMT Spacer Studs Automotive, OD 6mm, ID 4.2mm, 3.3 x 12mm; Manufacturer Part Number: 78614120960; Manufacturer: Wurth Elektronik; Hole Diameter: 3.3mm; Category: SMT Spacers; Match Code: WA-SMSA; ComponentLink1Description: Website Link; ComponentLink1URL: https://www.we-online.com/redexpert/article/78614120960?ad; ComponentLink2Description: Datasheet Link; ComponentLink2URL: https://www.we-online.com/redexpert/spec/78614120960?ad; Mount: Surface Mount; Operating Temperature Min: -55°C; Operating Temperature Max: 150°C; Packaging: Tape and Reel; Height: 12mm; Automotive: Yes; Inner Diameter: 4.2mm; Outer Diameter: 6mm
footprint 78614120960
pins: 1

## 78614120982
designator MP?, comment 4.5 x 12mm
WA-SMSA SMT Spacer Studs Automotive, OD 8.2mm, ID 5.2mm, 4.5 x 12mm; Manufacturer Part Number: 78614120982; Manufacturer: Wurth Elektronik; Hole Diameter: 4.5mm; Category: SMT Spacers; Match Code: WA-SMSA; ComponentLink1Description: Website Link; ComponentLink1URL: https://www.we-online.com/redexpert/article/78614120982?ad; ComponentLink2Description: Datasheet Link; ComponentLink2URL: https://www.we-online.com/redexpert/spec/78614120982?ad; Mount: Surface Mount; Operating Temperature Min: -55°C; Operating Temperature Max: 150°C; Packaging: Tape and Reel; Height: 12mm; Automotive: Yes; Inner Diameter: 5.2mm; Outer Diameter: 8.2mm
footprint 78614120982
pins: 1

## 78614130360
designator MP?, comment M3 x 13mm
WA-SMSA SMT Spacer Studs Automotive, OD 6mm, ID 4.2mm, M3 x 13mm; Manufacturer Part Number: 78614130360; Manufacturer: Wurth Elektronik; Category: SMT Spacers; Match Code: WA-SMSA; ComponentLink1Description: Website Link; ComponentLink1URL: https://www.we-online.com/redexpert/article/78614130360?ad; ComponentLink2Description: Datasheet Link; ComponentLink2URL: https://www.we-online.com/redexpert/spec/78614130360?ad; Mount: Surface Mount; Operating Temperature Min: -55°C; Operating Temperature Max: 150°C; Packaging: Tape and Reel; Height: 13mm; Automotive: Yes; Inner Diameter: 4.2mm; Outer Diameter: 6mm; Thread Size: M3
footprint 78614130360
pins: 1

## 78614130960
designator MP?, comment 3.3 x 13mm
WA-SMSA SMT Spacer Studs Automotive, OD 6mm, ID 4.2mm, 3.3 x 13mm; Manufacturer Part Number: 78614130960; Manufacturer: Wurth Elektronik; Hole Diameter: 3.3mm; Category: SMT Spacers; Match Code: WA-SMSA; ComponentLink1Description: Website Link; ComponentLink1URL: https://www.we-online.com/redexpert/article/78614130960?ad; ComponentLink2Description: Datasheet Link; ComponentLink2URL: https://www.we-online.com/redexpert/spec/78614130960?ad; Mount: Surface Mount; Operating Temperature Min: -55°C; Operating Temperature Max: 150°C; Packaging: Tape and Reel; Height: 13mm; Automotive: Yes; Inner Diameter: 4.2mm; Outer Diameter: 6mm
footprint 78614130960
pins: 1

## 78614140360
designator MP?, comment M3 x 14mm
WA-SMSA SMT Spacer Studs Automotive, OD 6mm, ID 4.2mm, M3 x 14mm; Manufacturer Part Number: 78614140360; Manufacturer: Wurth Elektronik; Category: SMT Spacers; Match Code: WA-SMSA; ComponentLink1Description: Website Link; ComponentLink1URL: https://www.we-online.com/redexpert/article/78614140360?ad; ComponentLink2Description: Datasheet Link; ComponentLink2URL: https://www.we-online.com/redexpert/spec/78614140360?ad; Mount: Surface Mount; Operating Temperature Min: -55°C; Operating Temperature Max: 150°C; Packaging: Tape and Reel; Height: 14mm; Automotive: Yes; Inner Diameter: 4.2mm; Outer Diameter: 6mm; Thread Size: M3
footprint 78614140360
pins: 1

## 78614140960
designator MP?, comment 3.3 x 14mm
WA-SMSA SMT Spacer Studs Automotive, OD 6mm, ID 4.2mm, 3.3 x 14mm; Manufacturer Part Number: 78614140960; Manufacturer: Wurth Elektronik; Hole Diameter: 3.3mm; Category: SMT Spacers; Match Code: WA-SMSA; ComponentLink1Description: Website Link; ComponentLink1URL: https://www.we-online.com/redexpert/article/78614140960?ad; ComponentLink2Description: Datasheet Link; ComponentLink2URL: https://www.we-online.com/redexpert/spec/78614140960?ad; Mount: Surface Mount; Operating Temperature Min: -55°C; Operating Temperature Max: 150°C; Packaging: Tape and Reel; Height: 14mm; Automotive: Yes; Inner Diameter: 4.2mm; Outer Diameter: 6mm
footprint 78614140960
pins: 1

## 78614150360
designator MP?, comment M3 x 15mm
WA-SMSA SMT Spacer Studs Automotive, OD 6mm, ID 4.2mm, M3 x 15mm; Manufacturer Part Number: 78614150360; Manufacturer: Wurth Elektronik; Category: SMT Spacers; Match Code: WA-SMSA; ComponentLink1Description: Website Link; ComponentLink1URL: https://www.we-online.com/redexpert/article/78614150360?ad; ComponentLink2Description: Datasheet Link; ComponentLink2URL: https://www.we-online.com/redexpert/spec/78614150360?ad; Mount: Surface Mount; Operating Temperature Min: -55°C; Operating Temperature Max: 150°C; Packaging: Tape and Reel; Height: 15mm; Automotive: Yes; Inner Diameter: 4.2mm; Outer Diameter: 6mm; Thread Size: M3
footprint 78614150360
pins: 1

## 78614150482
designator MP?, comment M4 x 15mm
WA-SMSA SMT Spacer Studs Automotive, OD 8.2mm, ID 5.2mm, M4 x 15mm; Manufacturer Part Number: 78614150482; Manufacturer: Wurth Elektronik; Category: SMT Spacers; Match Code: WA-SMSA; ComponentLink1Description: Website Link; ComponentLink1URL: https://www.we-online.com/redexpert/article/78614150482?ad; ComponentLink2Description: Datasheet Link; ComponentLink2URL: https://www.we-online.com/redexpert/spec/78614150482?ad; Mount: Surface Mount; Operating Temperature Min: -55°C; Operating Temperature Max: 150°C; Packaging: Tape and Reel; Height: 15mm; Automotive: Yes; Inner Diameter: 5.2mm; Outer Diameter: 8.2mm; Thread Size: M4
footprint 78614150482
pins: 1

## 78614150960
designator MP?, comment 3.3 x 15mm
WA-SMSA SMT Spacer Studs Automotive, OD 6mm, ID 4.2mm, 3.3 x 15mm; Manufacturer Part Number: 78614150960; Manufacturer: Wurth Elektronik; Hole Diameter: 3.3mm; Category: SMT Spacers; Match Code: WA-SMSA; ComponentLink1Description: Website Link; ComponentLink1URL: https://www.we-online.com/redexpert/article/78614150960?ad; ComponentLink2Description: Datasheet Link; ComponentLink2URL: https://www.we-online.com/redexpert/spec/78614150960?ad; Mount: Surface Mount; Operating Temperature Min: -55°C; Operating Temperature Max: 150°C; Packaging: Tape and Reel; Height: 15mm; Automotive: Yes; Inner Diameter: 4.2mm; Outer Diameter: 6mm
footprint 78614150960
pins: 1

## 78614150982
designator MP?, comment 4.5 x 15mm
WA-SMSA SMT Spacer Studs Automotive, OD 8.2mm, ID 5.2mm, 4.5 x 15mm; Manufacturer Part Number: 78614150982; Manufacturer: Wurth Elektronik; Hole Diameter: 4.5mm; Category: SMT Spacers; Match Code: WA-SMSA; ComponentLink1Description: Website Link; ComponentLink1URL: https://www.we-online.com/redexpert/article/78614150982?ad; ComponentLink2Description: Datasheet Link; ComponentLink2URL: https://www.we-online.com/redexpert/spec/78614150982?ad; Mount: Surface Mount; Operating Temperature Min: -55°C; Operating Temperature Max: 150°C; Packaging: Tape and Reel; Height: 15mm; Automotive: Yes; Inner Diameter: 5.2mm; Outer Diameter: 8.2mm
footprint 78614150982
pins: 1